# Altium schematic symbol library Opamps.SchLib: 3 symbols
Pins are listed as number, name and electrical type; pins without a type are passive.

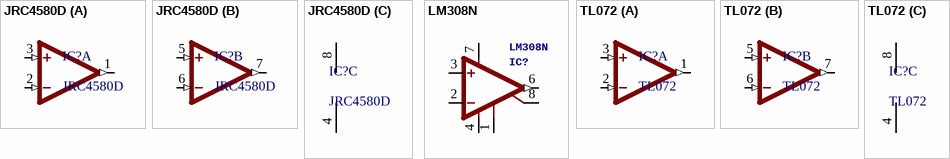
[diagram p0: symbols JRC4580D to TL072]

## JRC4580D
designator IC?
Price: 0.5; Package: DIP-8
footprint DIL8
part A pins: 1 OUT (out), 2 -IN (in), 3 +IN (in)
part B pins: 5 +IN (in), 6 -IN (in), 7 OUT (out)
part C pins: 4 V- (power), 8 V+ (power)

## LM308N
designator IC?
Package: DIP-8; Price: 0.3
footprint DIL8
pins: 1 CMP1, 2 -IN, 3 +IN, 4 V- (power), 6 OUT (out), 7 V+ (power), 8 CMP2

## TL072
designator IC?
Price: 0.1; Package: DIP-8
footprint DIL8
part A pins: 1 OUT (out), 2 -IN (in), 3 +IN (in)
part B pins: 5 +IN (in), 6 -IN (in), 7 OUT (out)
part C pins: 4 V- (power), 8 V+ (power)